# Altium schematic symbol library EL-sense_Connector.SchLib: 45 symbols
Pins are listed as number, name and electrical type; pins without a type are passive.

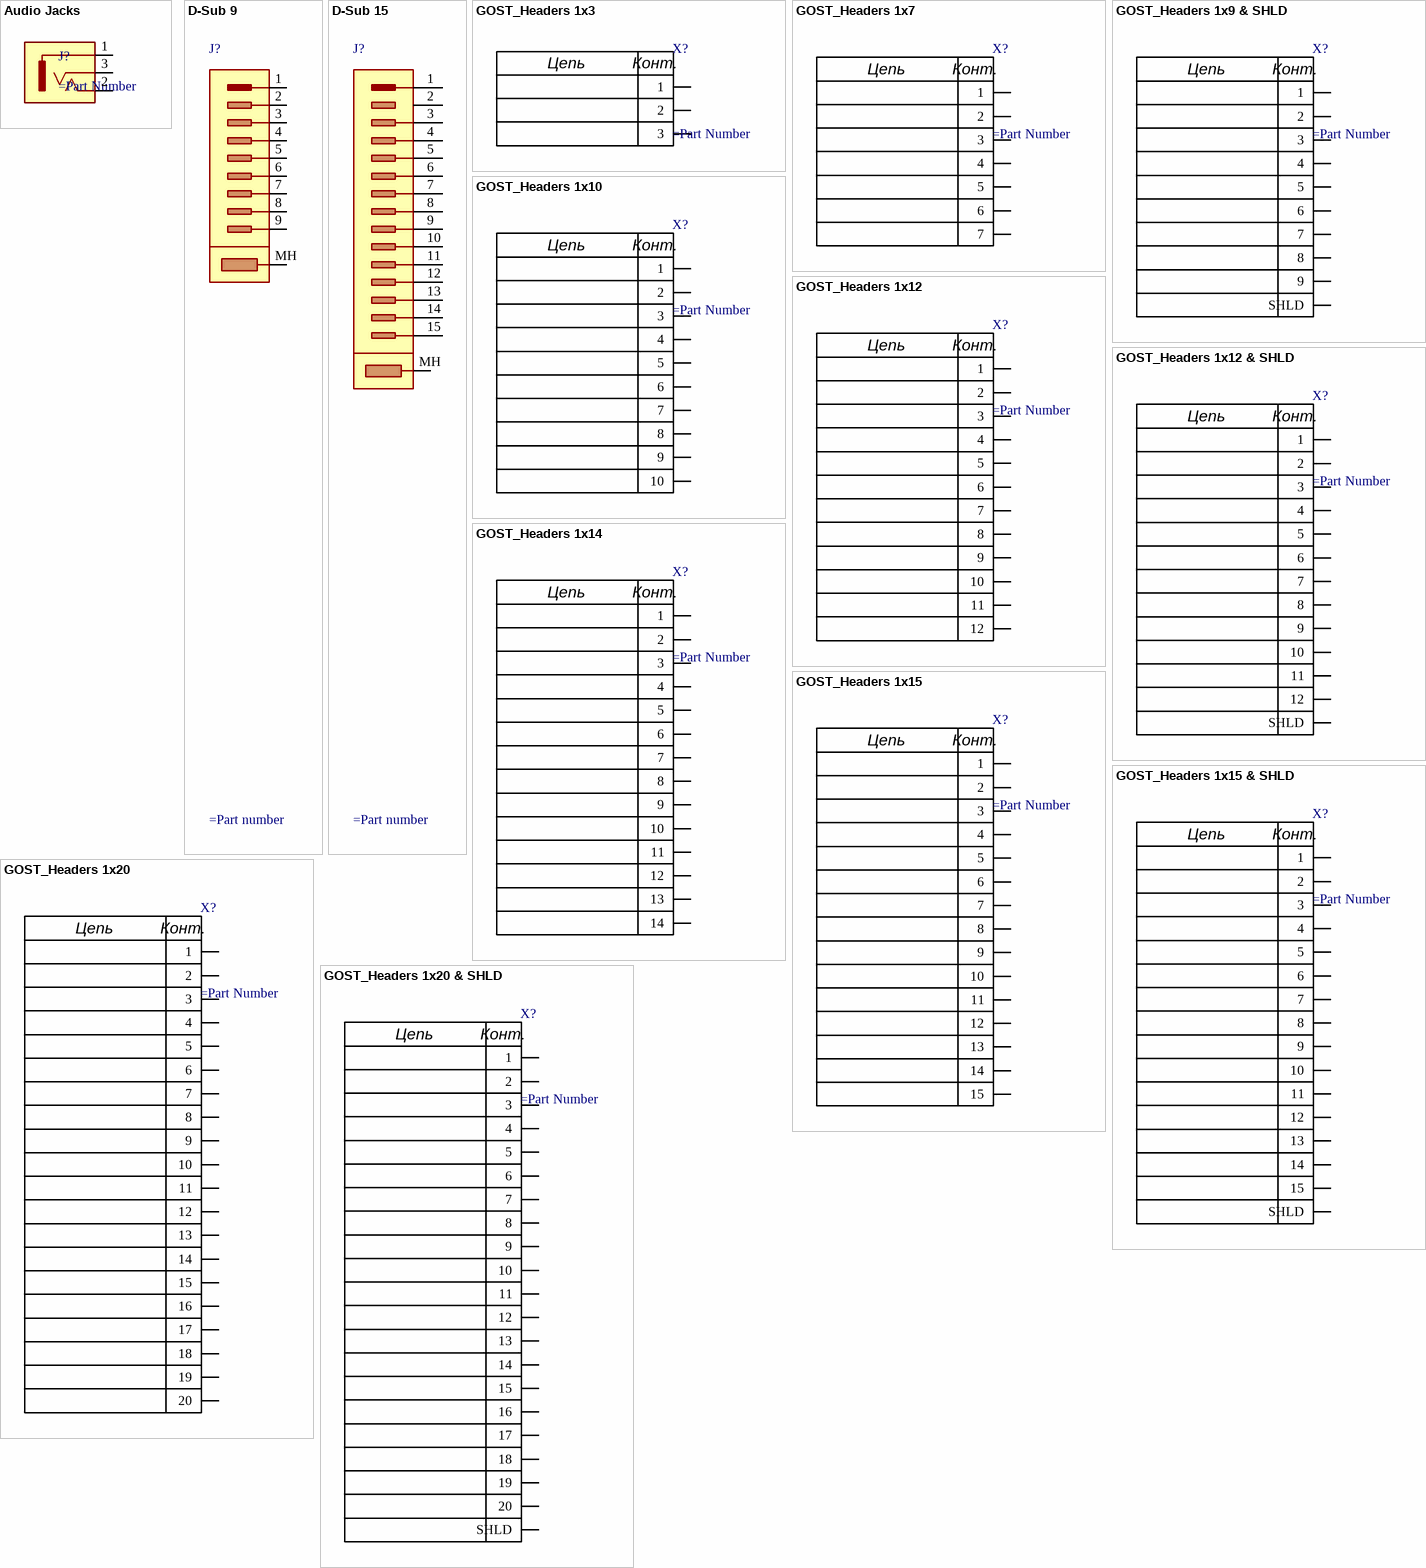
[diagram p0: symbols Audio Jacks to GOST_Headers 1x20 & SHLD]

## Audio Jacks
designator J?
pins: 1, 2, 3

## D-Sub 9
designator J?
pins: 1, 2, 3, 4, 5, 6, 7, 8, 9, MH MNT 1

## D-Sub 15
designator J?
pins: 1, 2, 3, 4, 5, 6, 7, 8, 9, 10, 11, 12, 13, 14, 15, MH MNT 1

## GOST_Headers 1x3
designator X?
pins: 1, 2, 3
text: Цепь; Конт.

## GOST_Headers 1x7
designator X?
System: Connector
pins: 1, 2, 3, 4, 5, 6, 7
text: Цепь; Конт.

## GOST_Headers 1x9 & SHLD
designator X?
System: Connector
pins: 1, 2, 3, 4, 5, 6, 7, 8, 9, SHLD
text: Цепь; Конт.

## GOST_Headers 1x10
designator X?
System: Connector
pins: 1, 2, 3, 4, 5, 6, 7, 8, 9, 10
text: Цепь; Конт.

## GOST_Headers 1x12
designator X?
System: Connector
pins: 1, 2, 3, 4, 5, 6, 7, 8, 9, 10, 11, 12
text: Цепь; Конт.

## GOST_Headers 1x12 & SHLD
designator X?
System: Connector
pins: 1, 2, 3, 4, 5, 6, 7, 8, 9, 10, 11, 12, MH SHLD
text: Цепь; Конт.

## GOST_Headers 1x14
designator X?
System: Connector
pins: 1, 2, 3, 4, 5, 6, 7, 8, 9, 10, 11, 12, 13, 14
text: Цепь; Конт.

## GOST_Headers 1x15
designator X?
System: Connector
pins: 1, 2, 3, 4, 5, 6, 7, 8, 9, 10, 11, 12, 13, 14, 15
text: Цепь; Конт.

## GOST_Headers 1x15 & SHLD
designator X?
System: Connector
pins: 1, 2, 3, 4, 5, 6, 7, 8, 9, 10, 11, 12, 13, 14, 15, MH SHLD
text: Цепь; Конт.

## GOST_Headers 1x20
designator X?
System: Connector
pins: 1, 2, 3, 4, 5, 6, 7, 8, 9, 10, 11, 12, 13, 14, 15, 16, 17, 18, 19, 20
text: Цепь; Конт.

## GOST_Headers 1x20 & SHLD
designator X?
System: Connector
pins: 1, 2, 3, 4, 5, 6, 7, 8, 9, 10, 11, 12, 13, 14, 15, 16, 17, 18, 19, 20, MH SHLD
text: Цепь; Конт.

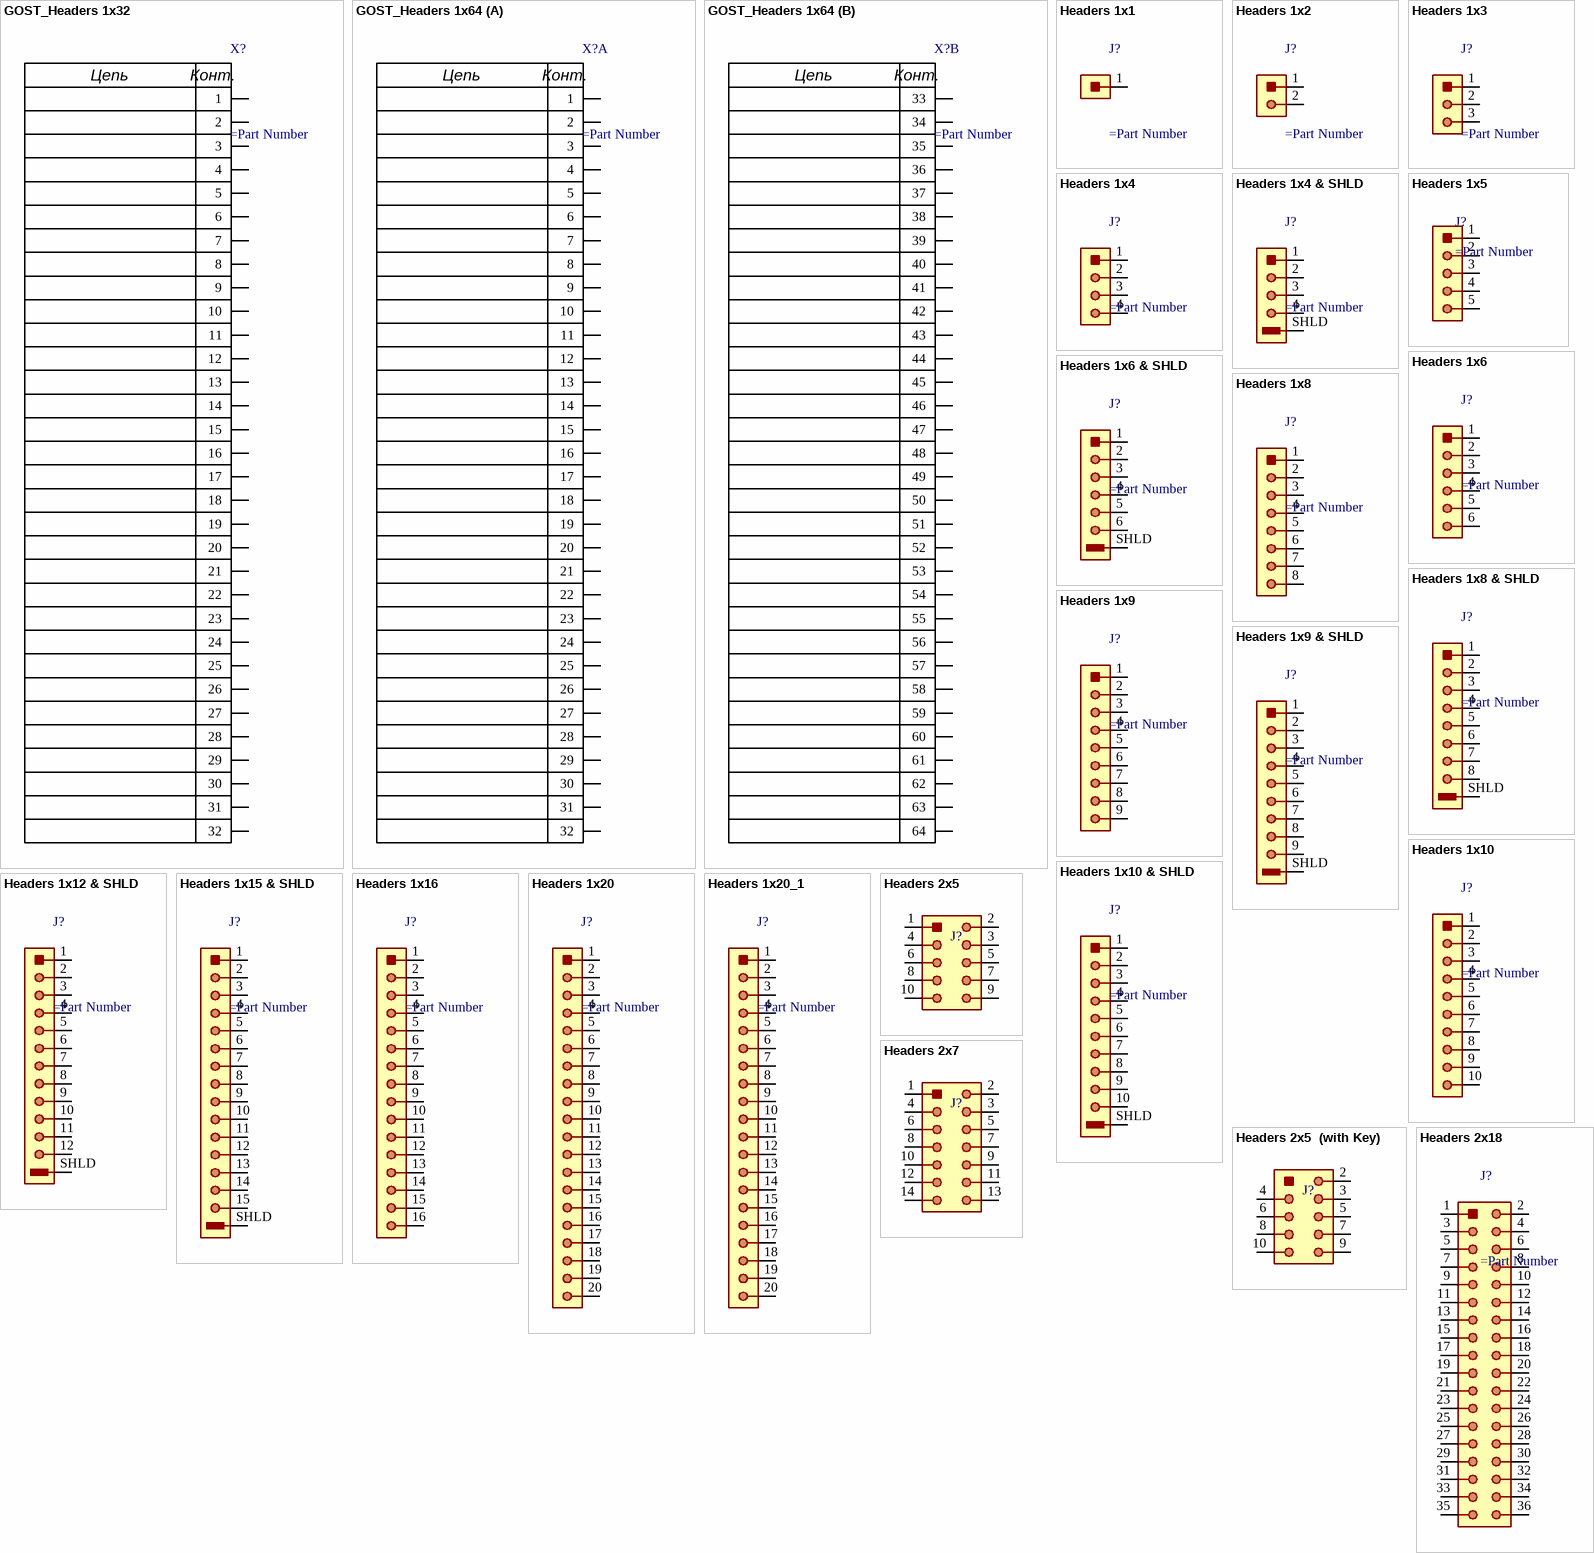
[diagram p1: symbols GOST_Headers 1x32 to Headers 2x18]

## GOST_Headers 1x32
designator X?
System: Connector
pins: 1, 2, 3, 4, 5, 6, 7, 8, 9, 10, 11, 12, 13, 14, 15, 16, 17, 18, 19, 20, 21, 22, 23, 24, 25, 26, 27, 28, 29, 30, 31, 32
text: Цепь; Конт.

## GOST_Headers 1x64
designator X?
System: Connector
part A pins: 1, 2, 3, 4, 5, 6, 7, 8, 9, 10, 11, 12, 13, 14, 15, 16, 17, 18, 19, 20, 21, 22, 23, 24, 25, 26, 27, 28, 29, 30, 31, 32
part B pins: 33, 34, 35, 36, 37, 38, 39, 40, 41, 42, 43, 44, 45, 46, 47, 48, 49, 50, 51, 52, 53, 54, 55, 56, 57, 58, 59, 60, 61, 62, 63, 64
part A text: Цепь; Конт.
part B text: Цепь; Конт.

## Headers 1x1
designator J?
pins: 1

## Headers 1x2
designator J?
pins: 1, 2

## Headers 1x3
designator J?
pins: 1, 2, 3

## Headers 1x4
designator J?
pins: 1, 2, 3, 4

## Headers 1x4 & SHLD
designator J?
pins: 1, 2, 3, 4, SHLD

## Headers 1x5
designator J?
pins: 1, 2, 3, 4, 5

## Headers 1x6
designator J?
pins: 1, 2, 3, 4, 5, 6

## Headers 1x6 & SHLD
designator J?
pins: 1, 2, 3, 4, 5, 6, SHLD

## Headers 1x8
designator J?
pins: 1, 2, 3, 4, 5, 6, 7, 8

## Headers 1x8 & SHLD
designator J?
pins: 1, 2, 3, 4, 5, 6, 7, 8, SHLD

## Headers 1x9
designator J?
pins: 1, 2, 3, 4, 5, 6, 7, 8, 9

## Headers 1x9 & SHLD
designator J?
pins: 1, 2, 3, 4, 5, 6, 7, 8, 9, SHLD

## Headers 1x10
designator J?
pins: 1, 2, 3, 4, 5, 6, 7, 8, 9, 10

## Headers 1x10 & SHLD
designator J?
pins: 1, 2, 3, 4, 5, 6, 7, 8, 9, 10, SHLD

## Headers 1x12 & SHLD
designator J?
pins: 1, 2, 3, 4, 5, 6, 7, 8, 9, 10, 11, 12, SHLD

## Headers 1x15 & SHLD
designator J?
pins: 1, 2, 3, 4, 5, 6, 7, 8, 9, 10, 11, 12, 13, 14, 15, SHLD

## Headers 1x16
designator J?
pins: 1, 2, 3, 4, 5, 6, 7, 8, 9, 10, 11, 12, 13, 14, 15, 16

## Headers 1x20
designator J?
pins: 1, 2, 3, 4, 5, 6, 7, 8, 9, 10, 11, 12, 13, 14, 15, 16, 17, 18, 19, 20

## Headers 1x20_1
designator J?
pins: 1, 2, 3, 4, 5, 6, 7, 8, 9, 10, 11, 12, 13, 14, 15, 16, 17, 18, 19, 20

## Headers 2x5
designator J?
pins: 1, 2, 3, 4, 5, 6, 7, 8, 9, 10

## Headers 2x5  (with Key)
designator J?
pins: 2, 3, 4, 5, 6, 7, 8, 9, 10

## Headers 2x7
designator J?
pins: 1, 2, 3, 4, 5, 6, 7, 8, 9, 10, 11, 12, 13, 14

## Headers 2x18
designator J?
pins: 1, 2, 3, 4, 5, 6, 7, 8, 9, 10, 11, 12, 13, 14, 15, 16, 17, 18, 19, 20, 21, 22, 23, 24, 25, 26, 27, 28, 29, 30, 31, 32, 33, 34, 35, 36

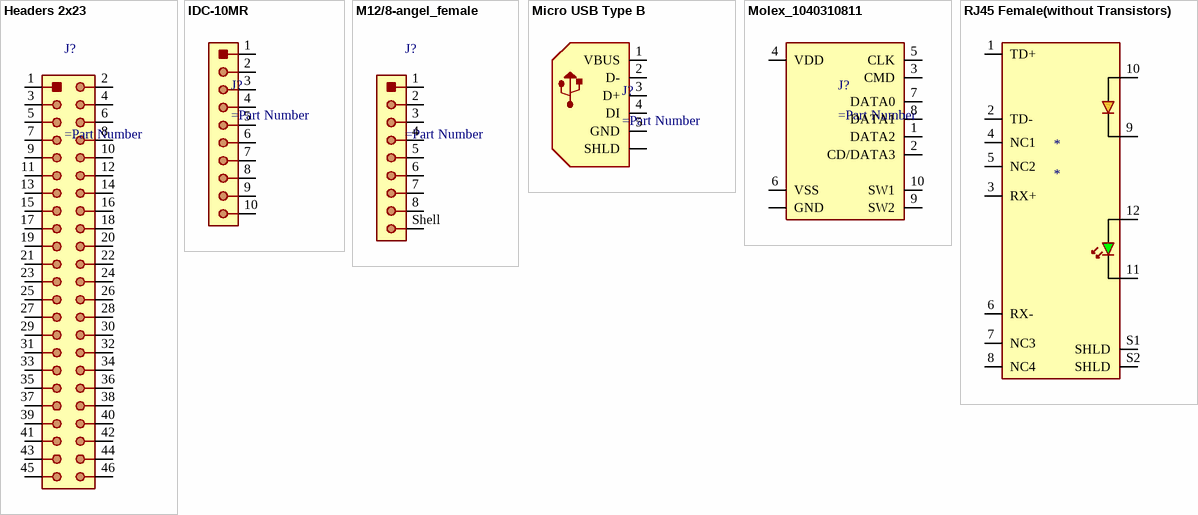
[diagram p2: symbols Headers 2x23 to RJ45 Female(without Transistors)]

## Headers 2x23
designator J?
pins: 1, 2, 3, 4, 5, 6, 7, 8, 9, 10, 11, 12, 13, 14, 15, 16, 17, 18, 19, 20, 21, 22, 23, 24, 25, 26, 27, 28, 29, 30, 31, 32, 33, 34, 35, 36, 37, 38, 39, 40, 41, 42, 43, 44, 45, 46

## IDC-10MR
designator J?
pins: 1, 2, 3, 4, 5, 6, 7, 8, 9, 10

## M12/8-angel_female
designator J?
pins: 1, 2, 3, 4, 5, 6, 7, 8, Shell 9

## Micro USB Type B
designator J?
pins: 1 VBUS (power), 2 D-, 3 D+, 4 DI, 5 GND (power), SH SHLD

## Molex_1040310811
designator J?
pins: 1 DATA2, 2 CD/DATA3, 3 CMD, 4 VDD, 5 CLK, 6 VSS, 7 DATA0, 8 DATA1, 9 SW2, 10 SW1, MH GND

## RJ45 Female(without Transistors)
designator *
pins: 1 TD+, 2 TD-, 3 RX+, 4 NC1, 5 NC2, 6 RX-, 7 NC3, 8 NC4, 9 YLW_C, 10 YLW_A, 11 GRN_C, 12 GRN_A, S1 SHLD, S2 SHLD